# Altium integrated library TLV75730PDRVR.IntLib: 1 symbol
Pins are listed as number, name and electrical type; pins without a type are passive.

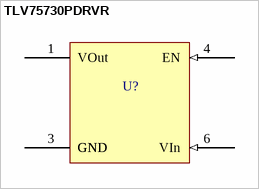
[diagram p0: symbol TLV75730PDRVR]

## TLV75730PDRVR
designator U?
footprint TLV75730PDRVR
pins: 1 VOut (power), 3 GND (power), 4 EN (in), 6 VIn (in), 7 GND (power)